# EAGLE library part SSW-106-02-G-S-RA (library SSW-106-02-G-S-RA)
.100" Tiger Buy Socket Strip, positions per row, row Source: Datasheet <http://suddendocs.samtec.com/prints/ssw-1xx-xx-xxx-x-xx-xxx-xx-mkt.pdf>
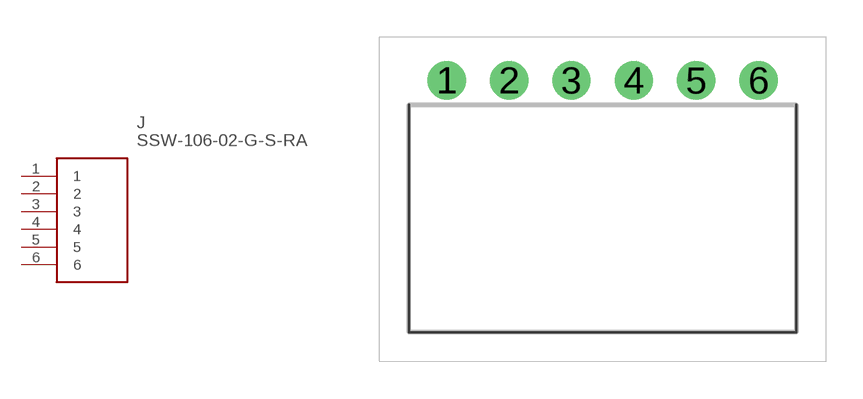
[diagram p0: symbol with the pads of SSW-106-XX-YYY-S-RA; footprint SSW-106-XX-YYY-S-RA]

Designator prefix J

## SSW-106-02-G-S-RA (Description: .100" Tiger Buy Socket Strip, positions per row, row; Height: mm; Manufacturer_Name: SAMTEC; Manufacturer_Part_Number: SSW-106-02-G-S-RA; Mouser_Part_Number: 200-SSW10602GSRA; Mouser_Price-Stock: https://www.mouser.co.uk/ProductDetail/Samtec/SSW-106-02-G-S-RA?qs=92ilVni64gxK1gPeghtn8A%3D%3D)  [SSW-106-XX-YYY-S-RA]
1  1
2  2
3  3
4  4
5  5
6  6

## Footprint SSW-106-XX-YYY-S-RA (pad centres in mm)
SSW-106-XX-YYY-S-RA
drill 1.04 pad 1.55: 1 0,0; 2 2.54,0; 3 5.08,0; 4 7.62,0; 5 10.16,0; 6 12.7,0